# Altium schematic symbol library MMDT3904-7-F.SchLib: 1 symbol
Pins are listed as number, name and electrical type; pins without a type are passive.

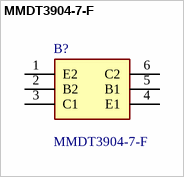
[diagram p0: symbol MMDT3904-7-F]

## MMDT3904-7-F
designator B?
Diodes Inc MMDT3904-7-F Dual NPN Bipolar Transistor, 200 mA, 40 V, 6-Pin SOT-363; Manufacturer_Name: Diodes Incorporated; Geometry.Height: 1.1mm; Mouser Part Number: 621-MMDT3904-F; Mouser Price/Stock: https://www.mouser.co.uk/ProductDetail/Diodes-Incorporated/MMDT3904-7-F?qs=57mY3cMFOgk2hRxwFAQcAA%3D%3D; Manufacturer_Part_Number: MMDT3904-7-F; Datasheet Link: https://www.diodes.com//assets/Datasheets/ds30088.pdf
footprint SOT65P210X110-6N
pins: 1 E2, 2 B2, 3 C1, 4 E1, 5 B1, 6 C2